# EAGLE library part WE-FB_LT35XX/LT3748_ER9.5 (library Wurth_Elektronik_Passive_rev15b)
WE-FB Flyback Transformer LT35xx / LT3748 Characteristics Standard transformers for various output voltages currents available Easy design of custom power supply due to standard circuit and change of transformers and two components for feedback loop Isolation voltage up to 2.5 kV Applications Isolated power design Sensor interfaces Isolated telecom converters Power over Ethernet <http://katalog.we-online.de/media/images/eisos/UtFB_LT_MID_pf2.jpg> Details see: http://katalog.we-online.de/en/pbs/WE-FB_Linear? Updated 2015-04-03 2015 (C) Wurth Elektronik
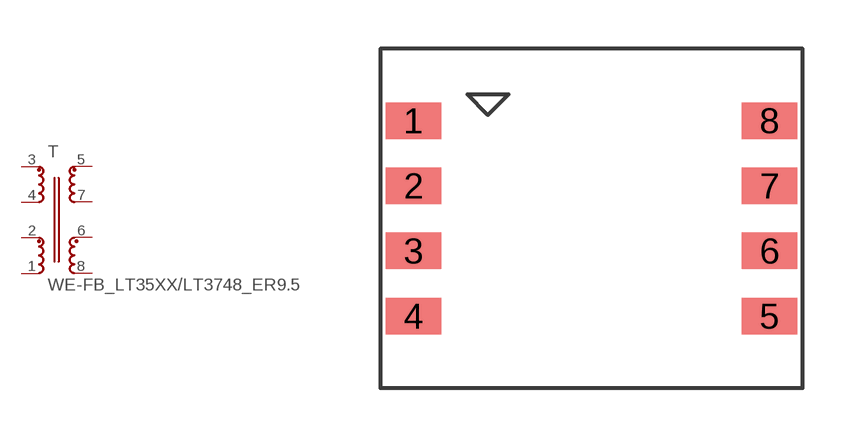
[diagram p91: symbol with the pads of WE-FB_ER9.5; footprint WE-FB_ER9.5]

Designator prefix T

## WE-FB_LT35XX/LT3748_ER9.5_750370042  [WE-FB_ER9.5]
1  6  pas
2  7  pas
3  1  pas
4  8  pas
5  2  pas
6  4  pas
7  3  pas
8  5  pas

## Footprint WE-FB_ER9.5 (pad centres in mm)
smd 1.7 x 1.12: 1 -5.46,3; 2 -5.46,1; 3 -5.46,-1; 4 -5.46,-3; 5 5.46,-3; 6 5.46,-1; 7 5.46,1; 8 5.46,3